# EAGLE library part TPS3700 (library U-Linear)
PXVQ [TI,TPS3700DDCR] WINDOW COMPARATOR 6SOT
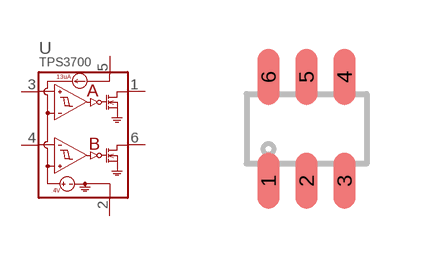
[diagram p2: symbol with the pads of SOT23-6; footprint SOT23-6]

Designator prefix U

## TPS3700DDCR  [SOT23-6]
1  OUTA  out
2  0V  sup
3  INA
4  INB
5  VDD  pwr
6  OUTB  out

## Footprint SOT23-6 (pad centres in mm)
Based on TI drawing 4204403-3/E which falls within JEDEC MO-193 variation AA (6p in)
smd 0.55 x 1.4: 1 -0.95,-1.3; 2 0,-1.3; 3 0.95,-1.3; 4 0.95,1.3; 5 0,1.3; 6 -0.95,1.3